# Altium footprint library lv20p.PcbLib: 1 footprints
Each footprint in its own frame and in the unit in brackets; x right, y up, seen from the top. Pads: shape width x height; smd on the part's side, far side on the other; paste and mask are expansions set on the pad; w line width, h text height; cw(c..) or ccw(c..) is an arc to the next point about the centre after c.
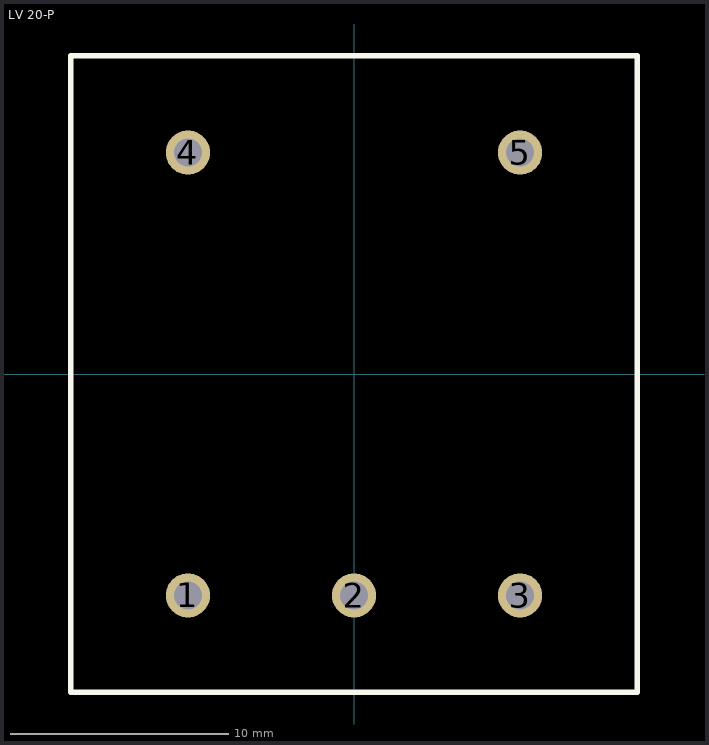
[diagram p0: the footprint, top view; thin cyan lines are the x and y axes]

## LV 20-P [mil] "Voltage Transducer LV 20-P"
height 635
pads (5):
  round 80 hole 50: 1(-300,-400) 2(0,-400) 3(300,-400) 4(-300,400) 5(300,400)
Top Overlay:
  lines w10: -511.81,-574.8 511.81,-574.8 511.81,574.8 -511.81,574.8 -511.81,-574.8